# Altium footprint library PcbLib1.PcbLib: 8 footprints
Each footprint in its own frame and in the unit in brackets; x right, y up, seen from the top. Pads: shape width x height; smd on the part's side, far side on the other; paste and mask are expansions set on the pad; w line width, h text height; cw(c..) or ccw(c..) is an arc to the next point about the centre after c.
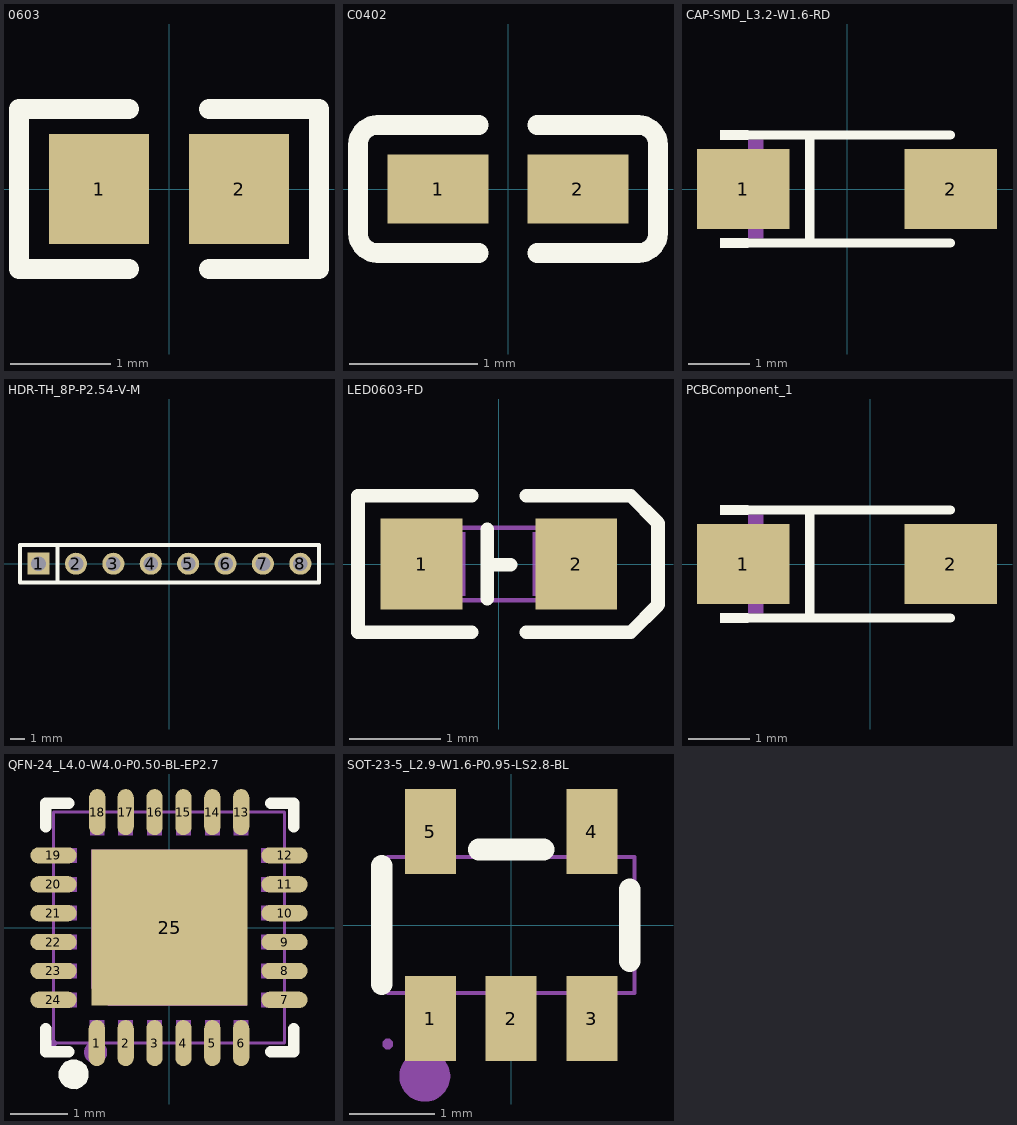
[diagram p0: the footprints below, top view; thin cyan lines are the x and y axes]

## 0603 [mm]
pads (2):
  rect 1x1.1 smd paste+0 mask+0.051: 1(-0.7,0) 2(0.7,0)
Top Overlay:
  lines w0.2: -0.4,-0.8 -1.5,-0.8 -1.5,-0.2 -1.5,0.8 -0.4,0.8 ; 0.4,-0.8 1.5,-0.8 1.5,0.8 0.4,0.8

## C0402 [mm]
pads (2):
  rect 0.79x0.54 smd paste-100 mask+0.051: 1(-0.545,0) 2(0.545,0)
Top Overlay:
  lines w0.152: -0.226,-0.499 -1.016,-0.499 cw(c-1.016,-0.346) -1.169,-0.346 -1.169,0.346 cw(c-1.016,0.346) -1.016,0.499 -0.226,0.499 ; 0.226,-0.499 1.016,-0.499 ccw(c1.016,-0.346) 1.169,-0.346 1.169,0.346 ccw(c1.016,0.346) 1.016,0.499 0.226,0.499
Top Paste:
  region: -0.18,0.225 -0.18,-0.225 -0.25,-0.275 -0.73,-0.275 -0.78,-0.225 -0.78,0.225 -0.73,0.275 -0.25,0.275
  region: 0.78,0.225 0.78,-0.225 0.73,-0.275 0.25,-0.275 0.18,-0.225 0.18,0.225 0.25,0.275 0.73,0.275

## CAP-SMD_L3.2-W1.6-RD [mm]
pads (2):
  rect 1.5x1.296 smd paste+0 mask+0.051: 1(-1.686,0) 2(1.686,0)
Top Overlay:
  region: -1.6,-0.952 -1.6,-0.8 -2.057,-0.8 -2.057,-0.952
  region: -1.6,0.952 -1.6,0.8 -2.057,0.8 -2.057,0.952
  lines w0.152: -1.676,-0.876 1.676,-0.876 ; -1.676,0.876 1.676,0.876 ; -0.604,-0.876 -0.604,0.876
Mechanical 15:
  region: 1.48,0.06 1.48,-0.06 1,-0.06 1,0.06
  region: -1.48,0.06 -1.48,-0.06 -1,-0.06 -1,0.06
  region: -1.3,0.4 -1.3,-0.4 -1.18,-0.4 -1.18,0.4
  region: -1.6,0.8 -1.6,0.4 -1.36,0.4 -1.36,0.8
  region: -1.6,-0.8 -1.6,-0.4 -1.36,-0.4 -1.36,-0.8

## HDR-TH_8P-P2.54-V-M [mm]
pads (8):
  rect 1.5x1.5 hole 1: 1(-8.89,0)
  round 1.5 hole 1: 2(-6.35,0) 3(-3.81,0) 4(-1.27,0) 5(1.27,0) 6(3.81,0) 7(6.35,0) 8(8.89,0)
Top Overlay:
  lines w0.254: -7.596,-1.27 -7.596,1.27 ; -10.16,-1.27 -10.16,1.27 10.16,1.27 10.16,-1.27 -10.16,-1.27
Mechanical 15:
  region: 8.57,0.32 9.21,0.32 9.21,-0.32 8.57,-0.32
  region: 6.03,0.32 6.67,0.32 6.67,-0.32 6.03,-0.32
  region: 3.49,0.32 4.13,0.32 4.13,-0.32 3.49,-0.32
  region: 0.95,0.32 1.59,0.32 1.59,-0.32 0.95,-0.32
  region: -1.59,0.32 -0.95,0.32 -0.95,-0.32 -1.59,-0.32
  region: -4.13,0.32 -3.49,0.32 -3.49,-0.32 -4.13,-0.32
  region: -6.67,0.32 -6.03,0.32 -6.03,-0.32 -6.67,-0.32
  region: -9.21,0.32 -8.57,0.32 -8.57,-0.32 -9.21,-0.32
  region: -10.1,-1.25 -10.1,-1.275 -10.135,-1.31 -10.185,-1.31 -10.22,-1.275 -10.22,-1.25 -10.22,-1.225 -10.185,-1.19 -10.135,-1.19 -10.1,-1.225
  lines w0.051: -10.16,-1.25 10.16,-1.25 10.16,1.25 -10.16,1.25 -10.16,-1.25

## LED0603-FD [mm]
pads (2):
  rect 0.9x1 smd: 1(-0.85,0) 2(0.85,0)
Top Overlay:
  lines w0.15: -1.55,-0.75 -0.3,-0.75 ; -1.55,-0.75 -1.55,0.73 ; -1.55,0.75 -0.3,0.75 ; -0.127,-0.381 -0.127,0.381 ; -0.127,-0.006 0.127,-0.006 ; 0.3,-0.75 1.45,-0.75 1.75,-0.45 1.75,-0.35 1.75,0.35 1.75,0.45 1.45,0.75 0.3,0.75
Mechanical 6:
  region: -1.1,0.1 -0.5,0.1 -0.5,-0.05 -1.1,-0.05
  region: 0.6,0.1 1.2,0.1 1.2,-0.05 0.6,-0.05
  region: -0.865,-0.273 -0.865,0.327 -0.715,0.327 -0.715,-0.273
Mechanical 15:
  region: -0.74,-0.4 -0.74,-0.425 -0.775,-0.46 -0.825,-0.46 -0.86,-0.425 -0.86,-0.4 -0.86,-0.375 -0.825,-0.34 -0.775,-0.34 -0.74,-0.375
  region: -0.8,-0.35 -0.8,0.35 -0.37,0.35 -0.37,-0.35
  region: 0.37,-0.35 0.37,0.35 0.8,0.35 0.8,-0.35
  lines w0.051: -0.8,-0.4 0.8,-0.4 0.8,0.4 -0.8,0.4 -0.8,-0.4

## PCBComponent_1 [mm]
pads (2):
  rect 1.5x1.296 smd paste+0 mask+0.051: 1(-2.067,0) 2(1.305,0)
Top Overlay:
  region: -1.981,0.952 -1.981,0.8 -2.438,0.8 -2.438,0.952
  region: -1.981,-0.952 -1.981,-0.8 -2.438,-0.8 -2.438,-0.952
  lines w0.152: -2.057,-0.876 1.295,-0.876 ; -2.057,0.876 1.295,0.876 ; -0.985,-0.876 -0.985,0.876
Mechanical 15:
  region: -1.981,-0.8 -1.981,-0.4 -1.741,-0.4 -1.741,-0.8
  region: -1.981,0.8 -1.981,0.4 -1.741,0.4 -1.741,0.8
  region: -1.681,0.4 -1.681,-0.4 -1.561,-0.4 -1.561,0.4
  region: -1.861,0.06 -1.861,-0.06 -1.381,-0.06 -1.381,0.06
  region: 1.099,0.06 1.099,-0.06 0.619,-0.06 0.619,0.06

## QFN-24_L4.0-W4.0-P0.50-BL-EP2.7 [mm]
pads (25):
  oval 0.28x0.8 smd paste-100 mask+0.05: 1(-1.25,-2) 2(-0.75,-2) 3(-0.25,-2) 4(0.25,-2) 5(0.75,-2) 6(1.25,-2) 13(1.25,2) 14(0.75,2) 15(0.25,2) 16(-0.25,2) 17(-0.75,2) 18(-1.242,2)
  oval 0.8x0.28 smd paste-100 mask+0.05: 7(2,-1.25) 8(2,-0.75) 9(2,-0.25) 10(2,0.25) 11(2,0.75) 12(2,1.25) 19(-2,1.25) 20(-2,0.75) 21(-2,0.25) 22(-2,-0.25) 23(-2,-0.75) 24(-2,-1.25)
  rect 2.7x2.7 smd paste-100 mask+0.05: 25(0.012,0)
Top Overlay:
  region: -1.397,-2.539 -1.397,-2.488 -1.436,-2.395 -1.508,-2.324 -1.601,-2.286 -1.702,-2.286 -1.795,-2.325 -1.866,-2.396 -1.905,-2.49 -1.905,-2.54 -1.905,-2.59 -1.866,-2.684 -1.795,-2.755 -1.702,-2.794 -1.601,-2.794 -1.508,-2.756 -1.436,-2.685 -1.397,-2.592 -1.397,-2.541
  lines w0.2: -2.138,-1.75 -2.138,-2.15 -1.738,-2.15 ; -2.138,1.75 -2.138,2.15 -1.738,2.15 ; 1.763,-2.15 2.163,-2.15 2.163,-1.75 ; 1.763,2.15 2.163,2.15 2.163,1.75
Top Paste:
  drawing of 25 lines, arcs and shapes, not listed
Mechanical 6:
  circle w0.2: c-1.27,-2.159 r0.1
Mechanical 15:
  region: -1.375,-2 -1.375,-1.6 -1.125,-1.6 -1.125,-2
  region: -0.875,-2 -0.875,-1.6 -0.625,-1.6 -0.625,-2
  region: -0.375,-2 -0.375,-1.6 -0.125,-1.6 -0.125,-2
  region: 0.125,-2 0.125,-1.6 0.375,-1.6 0.375,-2
  region: 0.625,-2 0.625,-1.6 0.875,-1.6 0.875,-2
  region: 1.125,-2 1.125,-1.6 1.375,-1.6 1.375,-2
  region: 1.6,-1.375 1.6,-1.125 2,-1.125 2,-1.375
  region: 1.6,-0.875 1.6,-0.625 2,-0.625 2,-0.875
  region: 1.6,-0.375 1.6,-0.125 2,-0.125 2,-0.375
  region: 1.6,0.125 1.6,0.375 2,0.375 2,0.125
  region: 1.6,0.625 1.6,0.875 2,0.875 2,0.625
  region: 1.6,1.125 1.6,1.375 2,1.375 2,1.125
  region: 1.125,1.6 1.125,2 1.375,2 1.375,1.6
  region: 0.625,1.6 0.625,2 0.875,2 0.875,1.6
  region: 0.125,1.6 0.125,2 0.375,2 0.375,1.6
  region: -0.375,1.6 -0.375,2 -0.125,2 -0.125,1.6
  region: -0.875,1.6 -0.875,2 -0.625,2 -0.625,1.6
  region: -1.367,1.6 -1.367,2 -1.117,2 -1.117,1.6
  region: -2,1.125 -2,1.375 -1.6,1.375 -1.6,1.125
  region: -2,0.625 -2,0.875 -1.6,0.875 -1.6,0.625
  region: -2,0.125 -2,0.375 -1.6,0.375 -1.6,0.125
  region: -2,-0.375 -2,-0.125 -1.6,-0.125 -1.6,-0.375
  region: -2,-0.875 -2,-0.625 -1.6,-0.625 -1.6,-0.875
  region: -2,-1.375 -2,-1.125 -1.6,-1.125 -1.6,-1.375
  region: -1.35,-1.05 -1.35,1.35 1.35,1.35 1.35,-1.35 -1.05,-1.35
  region: -1.94,-2 -1.94,-2.025 -1.975,-2.06 -2.025,-2.06 -2.06,-2.025 -2.06,-2 -2.06,-1.975 -2.025,-1.94 -1.975,-1.94 -1.94,-1.975
  lines w0.051: -2,-2 2,-2 2,2 -2,2 -2,-2

## SOT-23-5_L2.9-W1.6-P0.95-LS2.8-BL [mm]
pads (5):
  rect 0.6x1 smd paste+0 mask+0.05: 1(-0.95,-1.1) 2(0,-1.1) 3(0.95,-1.1) 4(0.95,1.1) 5(-0.95,1.1)
Top Overlay:
  lines w0.254: -1.524,-0.699 -1.524,0.699 ; -0.381,0.889 0.381,0.889 ; 1.397,-0.422 1.397,0.422
Mechanical 6:
  circle w0.3: c-1.016,-1.778 r0.15
Mechanical 15:
  region: -1.39,-1.4 -1.39,-1.425 -1.425,-1.46 -1.475,-1.46 -1.51,-1.425 -1.51,-1.4 -1.51,-1.375 -1.475,-1.34 -1.425,-1.34 -1.39,-1.375
  region: -0.2,-0.96 -0.2,-0.79 0.2,-0.79 0.2,-0.96
  region: -0.2,-1.4 -0.2,-0.95 0.2,-0.95 0.2,-1.4
  region: 0.75,-0.96 0.75,-0.79 1.15,-0.79 1.15,-0.96
  region: 0.75,-1.4 0.75,-0.95 1.15,-0.95 1.15,-1.4
  region: -1.15,-0.96 -1.15,-0.79 -0.75,-0.79 -0.75,-0.96
  region: -1.15,-1.4 -1.15,-0.95 -0.75,-0.95 -0.75,-1.4
  region: 0.75,0.79 0.75,0.96 1.15,0.96 1.15,0.79
  region: 0.75,0.95 0.75,1.4 1.15,1.4 1.15,0.95
  region: -1.15,0.79 -1.15,0.96 -0.75,0.96 -0.75,0.79
  region: -1.15,0.95 -1.15,1.4 -0.75,1.4 -0.75,0.95
  lines w0.051: -1.45,-0.8 -1.45,0.8 1.45,0.8 1.45,-0.8 -1.45,-0.8